# Altium schematic symbol library CN-1P-F-RF5.SchLib: 1 symbol
Pins are listed as number, name and electrical type; pins without a type are passive.

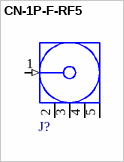
[diagram p0: symbol CN-1P-F-RF5]

## CN-1P-F-RF5
designator J?
pins: 1 Signal (in) "Signal Pin", 2 GND (power), 3 GND (power), 4 GND (power), 5 GND (power)